# Altium footprint library 常用封装.PcbLib: 264 footprints (part 3 of 17)
Each footprint in its own frame and in the unit in brackets; x right, y up, seen from the top. Pads: shape width x height; smd on the part's side, far side on the other; paste and mask are expansions set on the pad; w line width, h text height; cw(c..) or ccw(c..) is an arc to the next point about the centre after c.
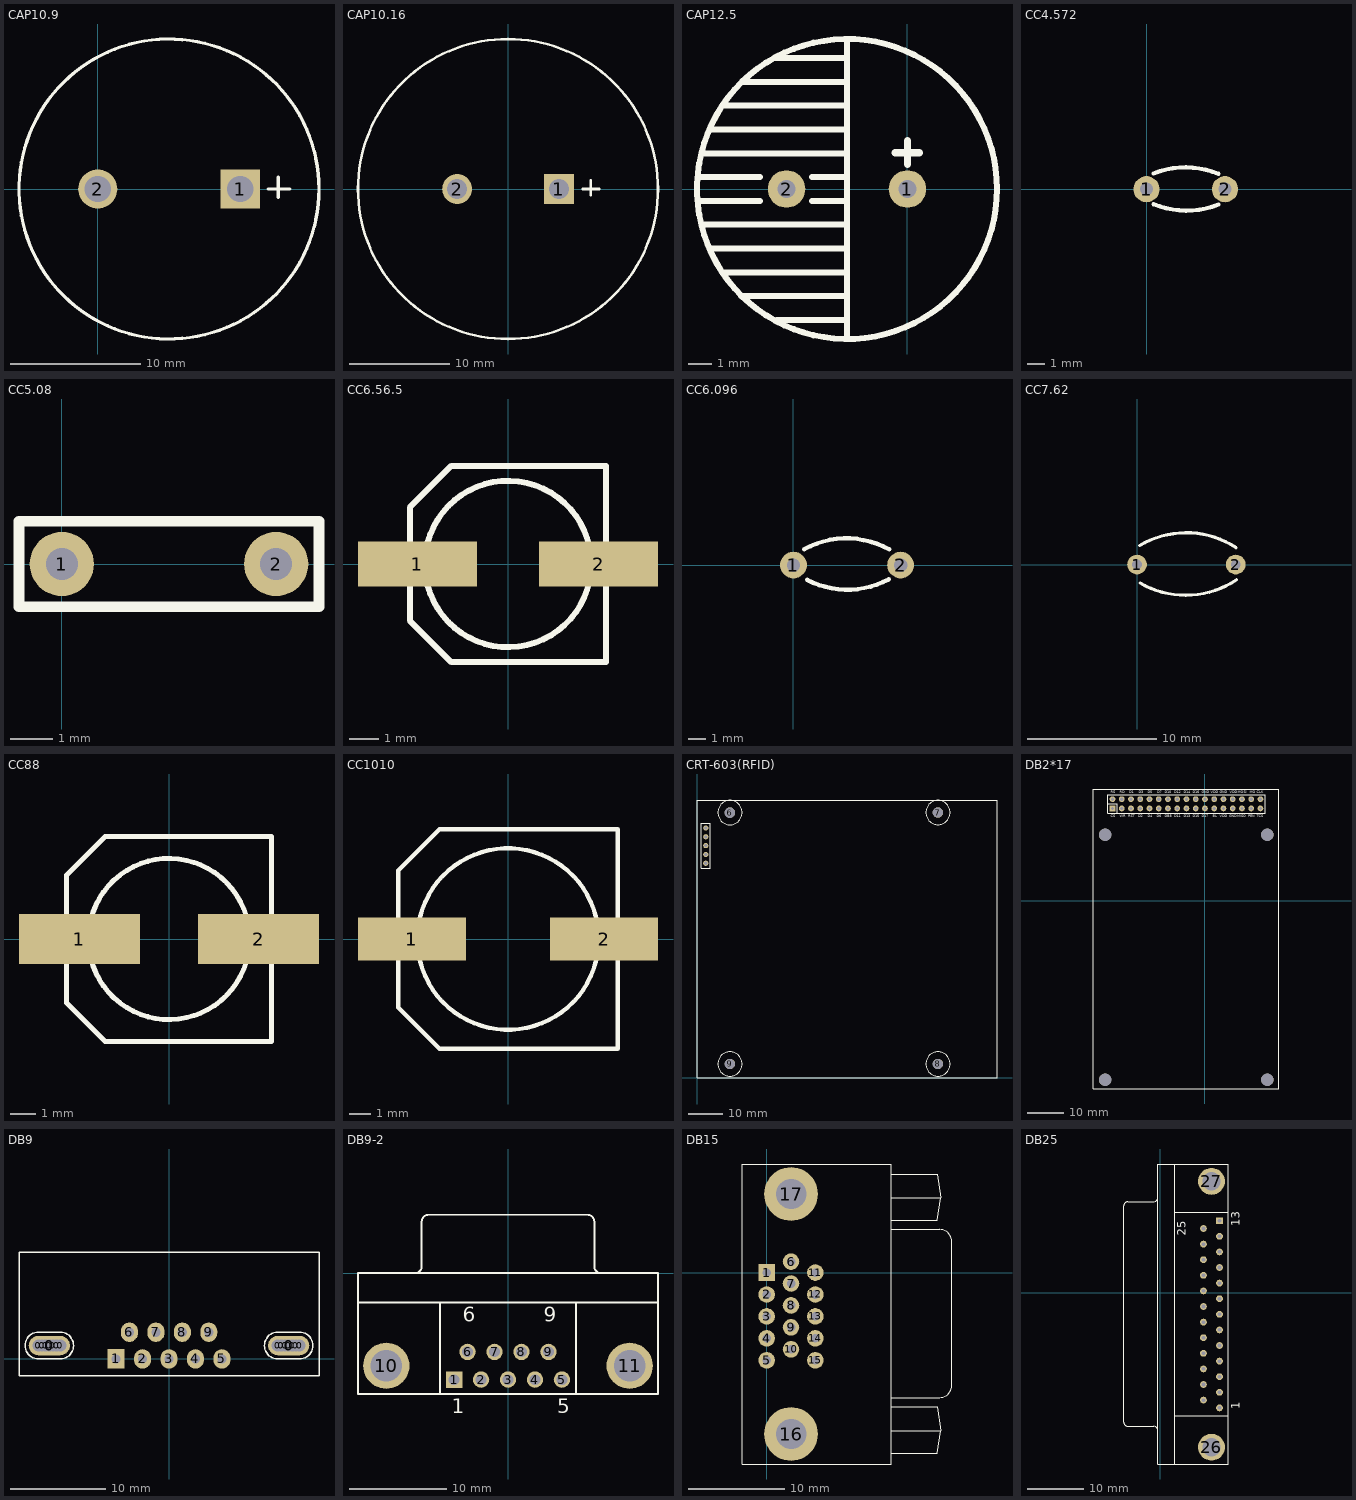
[diagram p2: the footprints below, top view; thin cyan lines are the x and y axes]

## CAP10.9 [mm] "50V 2200uF"
height 26
pads (2):
  rect 3x3 hole 2: 1(10.922,0)
  round 3 hole 2: 2(0,0)
Top Overlay:
  circle w0.254: c5.461,0 r11.5
  lines w0.254: 13.081,0 14.732,0 ; 13.843,-0.635 13.843,0.889

## CAP10.16 [mm] "50V10000uF"
height 50
pads (2):
  rect 3x3 hole 2: 1(5.08,0)
  round 3 hole 2: 2(-5.08,0)
Top Overlay:
  circle w0.254: c0,0 r15
  lines w0.254: 7.493,0 9.144,0 ; 8.255,-0.635 8.255,0.889

## CAP12.5 [mil] "12.5mm*20mm,pin:5.08mm"
height 787.4
pads (2):
  round 62 hole 30: 1(0,0) 2(-200,0)
Top Overlay:
  circle w10: c-100,0 r248.03
  lines w10: -346.46,-19.68 -244.09,-19.68 ; -346.46,19.68 -244.09,19.68 ; -338.58,-59.06 -100,-59.06 ; -334.65,59.06 -100,59.06 ; -326.77,98.43 -100,98.43 ; -322.83,-98.43 -100,-98.43 ; -303.15,-137.8 -100,-137.8 ; -303.15,137.8 -100,137.8 ; -275.59,-177.17 -100,-177.17 ; -271.65,177.17 -100,177.17 ; -220.47,216.54 -100,216.54 ; -216.54,-216.54 -100,-216.54 ; -157.48,-19.68 -100,-19.68 ; -157.48,19.68 -100,19.68 ; -100,-248.03 -100,244.09
  lines w12: -20.32,60 20,60 ; 0,40.63 0,80

## CC4.572 [mil] "222/332"
height 393.7
pads (2):
  round 60 hole 30: 1(0,0) 2(180,0)
Top Overlay:
  lines w10: 15.81,-34.13 ccw(c91.47,147.6) 165,-35 ; 15.81,35.87 cw(c89.34,-146.73) 165,35

## CC5.08 [mil] "CAP0.1"
height 314.96
pads (2):
  round 60 hole 30: 1(0,0) 2(200,0)
Top Overlay:
  lines w10: -15,40 240,40 240,-40 -40,-40 -40,40 -5,40

## CC6.56.5 [mm] "SMD;W:6.5mm;L:6.5mm;"
height 5.5
pads (2):
  rect 4x1.5 smd: 1(-3.048,0) 2(3.048,0)
Top Overlay:
  circle w0.2: c0,0 r2.8
  lines w0.2: -3.302,-1.905 -3.302,1.905 -1.905,3.302 3.302,3.302 3.302,-3.302 -1.905,-3.302 -3.302,-1.905

## CC6.096 [mil]
height 354.33
pads (2):
  round 60 hole 30: 1(0,0) 2(240,0)
Top Overlay:
  lines w10: 24.43,35.56 cw(c119.21,-136.97) 215,35 ; 30.81,-33.42 ccw(c120.66,141.73) 213.36,-31.93

## CC7.62 [mil]
height 472.44
pads (2):
  round 60 hole 30: 1(0,0) 2(300,0)
Top Overlay:
  lines w10: 8.27,57.9 cw(c149.46,-178.78) 300.95,51.44 ; 9.4,-56.03 ccw(c148.05,182.14) 302.41,-46.17

## CC88 [mm] "SMD;W:8mm;L:8mm;"
height 10
pads (2):
  rect 4.8x2 smd: 1(-3.556,0) 2(3.556,0)
Top Overlay:
  circle w0.2: c0,0 r3.2
  lines w0.2: -1.905,4.064 -2.54,4.064 ; -2.54,4.064 -4.064,2.54 -4.064,-2.54 -2.54,-4.064 4.064,-4.064 4.064,4.064 -2.54,4.064

## CC1010 [mm] "SMD;W:10mm;L:10mm;"
height 10
pads (2):
  rect 5x2 smd: 1(-4.445,0) 2(4.445,0)
Top Overlay:
  circle w0.2: c0,0 r4.2
  lines w0.2: -5.08,2.921 -5.08,3.175 ; -5.08,3.175 -5.08,-3.175 -3.175,-5.08 5.08,-5.08 5.08,5.08 -3.175,5.08 -5.08,3.175

## CRT-603(RFID) [mm] "RFID,"
pads (9):
  round 1.5 hole 0.9: 1(2.54,72) 2(2.54,69.46) 3(2.54,66.92) 4(2.54,64.38) 5(2.54,61.84)
  round 3 hole 3: 6(9.5,76.454) 7(69.469,76.468) 8(69.469,3.968) 9(9.5,3.968)
Top Overlay:
  circle w0.178: c69.469,76.468 r3.5
  circle w0.178: c9.5,76.454 r3.5
  circle w0.178: c9.5,3.968 r3.5
  circle w0.178: c69.469,3.968 r3.5
  lines w0.254: 0,0 0,80 86.5,80 86.5,0 0,0 ; 1.27,60.452 3.81,60.452 3.81,73.406 1.27,73.406 1.27,60.452

## DB2*17 [mil] "DB_LCD"
pads (38):
  rect 62x62 hole 35: 1(-1000,1000)
  round 62 hole 35: 2(-1000,1100) 3(-900,1000) 4(-900,1100) 5(-800,1000) 6(-800,1100) 7(-700,1000) 8(-700,1100) 9(-600,1000) 10(-600,1100) 11(-500,1000) 12(-500,1100) 13(-400,1000) 14(-400,1100) 15(-300,1000) 16(-300,1100) 17(-200,1000) 18(-200,1100) 19(-100,1000) 20(-100,1100) 21(0,1000) 22(0,1100) 23(100,1000) 24(100,1100) 25(200,1000) 26(200,1100) 27(300,1000) 28(300,1100) 29(400,1000) 30(400,1100) 31(500,1000) 32(500,1100) 33(600,1000) 34(600,1100)
  round 133.86 hole 133.86: ""(-1080,-1935) ""(-1080,715) ""(675,-1935) ""(675,715)
Top Overlay:
  lines w6: -1050,1050 -950,1050 -950,950 ; -1050,950 -1050,1150 650,1150 650,950 -1050,950
  lines w10: -1210,-2030 -1205,-2035 800,-2035 800,1210 -625,1210 -1210,1210 -1210,-2030
  text "D16" at -132.87,1161.42 h28
  text "DB8" at -433.07,905.51 h28
  text "RS" at -1018.7,1161.42 h28
  text "CS" at -1018.7,905.51 h28
  text "WR" at -920.28,905.51 h28
  text "RST" at -831.69,905.51 h28
  text "D2" at -723.43,905.51 h28
  text "D3" at -718.5,1161.42 h28
  text "D4" at -620.08,905.51 h28
  text "D5" at -620.08,1161.42 h28
  text "D6" at -521.65,905.51 h28
  text "D7" at -516.73,1161.42 h28
  text "D10" at -433.07,1161.42 h28
  text "D11" at -329.72,905.51 h28
  text "D15" at -132.87,905.51 h28
  text "D14" at -231.3,1161.42 h28
  text "D17" at -34.45,905.51 h28
  text "VDD" at 162.4,905.51 h28
  text "VDD" at 265.75,1161.42 h28
  text "GND" at 162.4,1161.42 h28
  text "VDD" at 63.98,1161.42 h28
  text "D12" at -334.65,1161.42 h28
  text "D1" at -816.93,1161.42 h28
  text "RD" at -920.28,1161.42 h28
  text "GND" at -34.45,1161.42 h28
  text "GND" at 260.83,905.51 h28
  text "D13" at -231.3,905.51 h28
  text "PEN" at 467.52,905.51 h28.03
  text "CLK" at 561.02,1161.42 h28.03
  text "MOSI" at 354.33,1161.42 h28.03
  text "MO" at 482.28,1161.42 h28.03
  text "TCS" at 561.02,905.51 h28.03
  text "MISO" at 349.41,905.51 h28.03
  text "BL" at 83.66,905.51 h28

## DB9 [mil]
pads (25):
  round 50 hole 50: 0(-538,55) 0(-523,55) 0(-508,55) 0(-493,55) 0(-478,55) 0(-463,55) 0(-448,55) 0(448,55) 0(463,55) 0(478,55) 0(493,55) 0(508,55) 0(523,55) 0(538,55)
  oval 170x80 hole 50: 0(-493,55) 0(493,55)
  rect 70x80 hole 38: 1(-218,0)
  oval 70x80 hole 38: 2(-109,0) 3(0,0) 4(109,0) 5(218,0) 6(-163,110) 7(-54,110) 8(55,110) 9(164,110)
Top Overlay:
  lines w6: -618,-70 618,-70 618,440 -618,440 -618,-70 ; -538,0 cw(c-538,55) -538,110 -448,110 cw(c-448,55) -448,0 -538,0 ; 448,0 cw(c448,55) 448,110 538,110 cw(c538,55) 538,0 448,0

## DB9-2 [mm] "Connector; D Subminiature; 9 Position; Right Angle; Pitch 1.385 mm"
height 12.75
pads (11):
  rect 1.69x1.69 hole 1.09: 1(-5.54,-10.92)
  round 1.69 hole 1.09: 2(-2.77,-10.92) 3(0,-10.92) 4(2.77,-10.92) 5(5.54,-10.92) 6(-4.155,-8.08) 7(-1.385,-8.08) 8(1.385,-8.08) 9(4.155,-8.08)
  round 4.76 hole 3.26: 10(-12.495,-9.5) 11(12.495,-9.5)
Top Overlay:
  lines w0.2: -15.4,-3 15.4,-3 ; -9.56,0.005 ccw(c-9.56,0.7) -8.865,0.7 -8.865,5.3 ; -8.86,5.305 cw(c-8.165,5.305) -8.165,6 8.165,6 cw(c8.165,5.305) 8.86,5.305 ; -7,-12.4 -7,-3 ; 7,-12.4 7,-3 ; 8.865,5.3 8.865,0.7 ccw(c9.56,0.7) 9.56,0.005 ; -15.4,-12.4 -15.4,0 15.4,0 15.4,-12.4 -15.4,-12.4
  text "1" at -5.79,-14.375 h1.5
  text "5" at 5.04,-14.375 h1.5
  text "9" at 3.655,-4.975 h1.5
  text "6" at -4.655,-4.975 h1.5

## DB15 [mil] "VGA-15"
height 314.96
pads (17):
  rect 68x68 hole 35: 1(0,0)
  round 68 hole 35: 2(0,-90) 3(0,-180) 4(0,-270) 5(0,-360) 6(100,45) 7(100,-45) 8(100,-135) 9(100,-225) 10(100,-315) 11(200,0) 12(200,-90) 13(200,-180) 14(200,-270) 15(200,-360)
  round 220 hole 125: 16(100,-662) 17(100,322)
Top Overlay:
  lines w5: 510,-504 510,136 ; 510.24,441 510.24,445 ; 511,-740 699,-740 713,-648 ; 511,-648 713,-648 ; 511,-550 699,-550 713,-648 ; 511,-512.49 709,-512.49 ccw(c709,-462.49) 759,-462.49 759,126.49 ccw(c709,126.49) 709,176.49 511,176.49 ; 511,214 699,214 713,306 ; 511,306 713,306 ; 511,404 699,404 713,306 ; 510.24,445 510.24,-785 -100,-785 -100,445 510.24,445

## DB25 [mm]
height 15
pads (27):
  rect 1.2x1.2 hole 0.635: 1(10.488,12.781)
  round 1.2 hole 0.635: 2(10.488,10.02) 3(10.488,7.259) 4(10.488,4.498) 5(10.488,1.737) 6(10.488,-1.024) 7(10.488,-3.785) 8(10.488,-6.546) 9(10.488,-9.307) 10(10.488,-12.068) 11(10.488,-14.829) 12(10.488,-17.59) 13(10.488,-20.351) 14(7.648,11.401) 15(7.648,8.64) 16(7.648,5.879) 17(7.648,3.118) 18(7.648,0.357) 19(7.648,-2.404) 20(7.648,-5.165) 21(7.648,-7.926) 22(7.648,-10.687) 23(7.648,-13.448) 24(7.648,-16.209) 25(7.648,-18.97)
  round 4.76 hole 3.26: 26(9.068,-27.311) 27(9.068,19.741)
Top Overlay:
  lines w0.2: -5.737,-23.626 cw(c-5.737,-22.931) -6.432,-22.931 -6.432,15.469 cw(c-5.737,15.469) -5.737,16.164 ; -5.732,-23.631 -1.132,-23.631 cw(c-1.132,-24.326) -0.437,-24.326 ; -5.732,16.169 -1.132,16.169 ccw(c-1.132,16.864) -0.437,16.864 ; 2.568,-30.281 2.568,22.819 ; 2.568,-21.731 12.068,-21.731 ; 2.568,14.269 12.068,14.269 ; -0.432,-30.281 -0.432,22.819 12.068,22.819 12.068,-30.281 -0.432,-30.281
  text "1" at 14.043,-20.601 h1.5
  text "13" at 14.046,11.836 h1.5
  text "25" at 4.543,10.151 h1.5